# Altium footprint library MS5803_125P640x620-8N.PcbLib: 1 footprints
Each footprint in its own frame and in the unit in brackets; x right, y up, seen from the top. Pads: shape width x height; smd on the part's side, far side on the other; paste and mask are expansions set on the pad; w line width, h text height; cw(c..) or ccw(c..) is an arc to the next point about the centre after c.
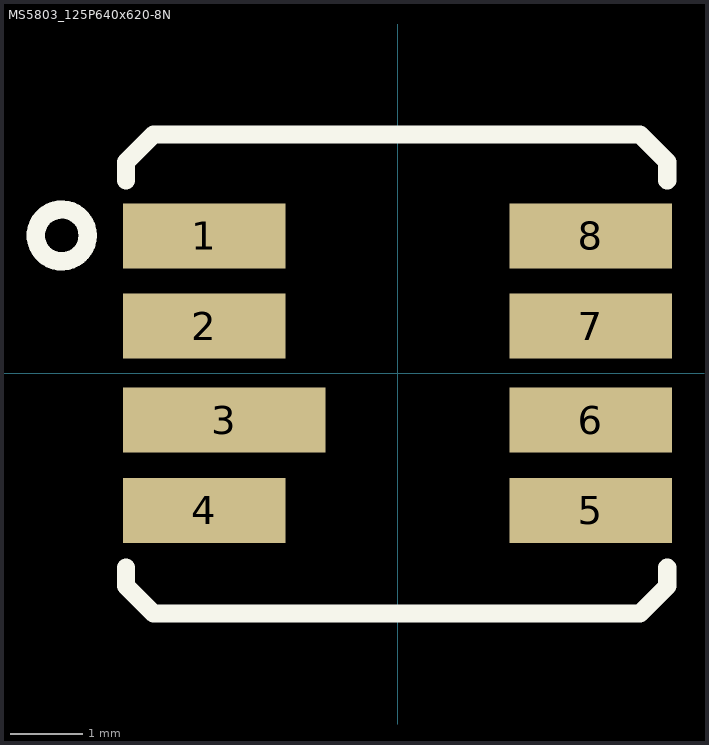
[diagram p0: the footprint, top view; thin cyan lines are the x and y axes]

## MS5803_125P640x620-8N [mm] "Footprint for the MS5803 family of pressure sensors"
height 2.88
pads (8):
  rect 2.25x0.9 smd: 1(-2.675,1.9) 2(-2.675,0.65) 4(-2.675,-1.9) 5(2.675,-1.9) 6(2.675,-0.65) 7(2.675,0.65) 8(2.675,1.9)
  rect 2.8x0.9 smd: 3(-2.4,-0.65)
Top Overlay:
  circle w0.254: c-4.648,1.905 r0.359
  lines w0.254: -3.759,-2.692 -3.759,-2.946 -3.378,-3.327 3.353,-3.327 3.734,-2.946 3.734,-2.692 ; -3.759,2.667 -3.759,2.921 -3.378,3.302 3.353,3.302 3.734,2.921 3.734,2.667
3D body "MS580305BA01-00 v15.step": height 2.88, standoff 0, extent -3.175,-3.099 3.225,3.101